# Altium schematic symbol library LTST-C190KFKT.SchLib: 1 symbol
Pins are listed as number, name and electrical type; pins without a type are passive.

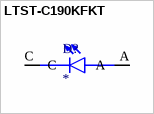
[diagram p0: symbol LTST-C190KFKT]

## LTST-C190KFKT
designator D?
LED Uni-Color Orange 611nm 2-Pin Chip LED T/R; MP: LTST-C190KFKT; MF: Lite-On Electronics; Price: None; Purchase-URL: https://pricing.snapeda.com/search/part/LTST-C190KFKT/?ref=eda; Package: 0603 Lite-On; Check_prices: https://www.snapeda.com/parts/LTST-C190KFKT/Applied+Avionics/view-part/?ref=eda; SnapEDA_Link: https://www.snapeda.com/parts/LTST-C190KFKT/Applied+Avionics/view-part/?ref=snap; Value: *; Availability: In Stock
footprint LEDM1608X80
pins: A, C